# EAGLE library part LED-RGB-6P-SMD (library Elecrow_Discrete)
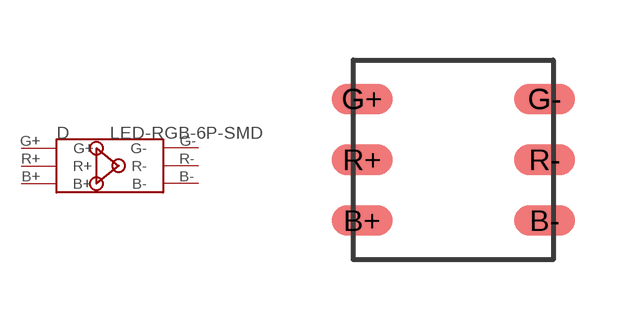
[diagram p6: symbol with the pads of LED-6P-SMD-5050; footprint LED-6P-SMD-5050]

Designator prefix D

## LED-RGB-6P-SMD-5050  [LED-6P-SMD-5050]
B+  B+
B-  B-
G+  G+
G-  G-
R+  R+
R-  R-

## Footprint LED-6P-SMD-5050 (pad centres in mm)
smd 1.524 x 0.762: B+ -2.286,-1.524; B- 2.286,-1.524; G+ -2.286,1.524; G- 2.286,1.524; R+ -2.286,0; R- 2.286,0